# EAGLE library part ADV7611 (library cchow_2014)
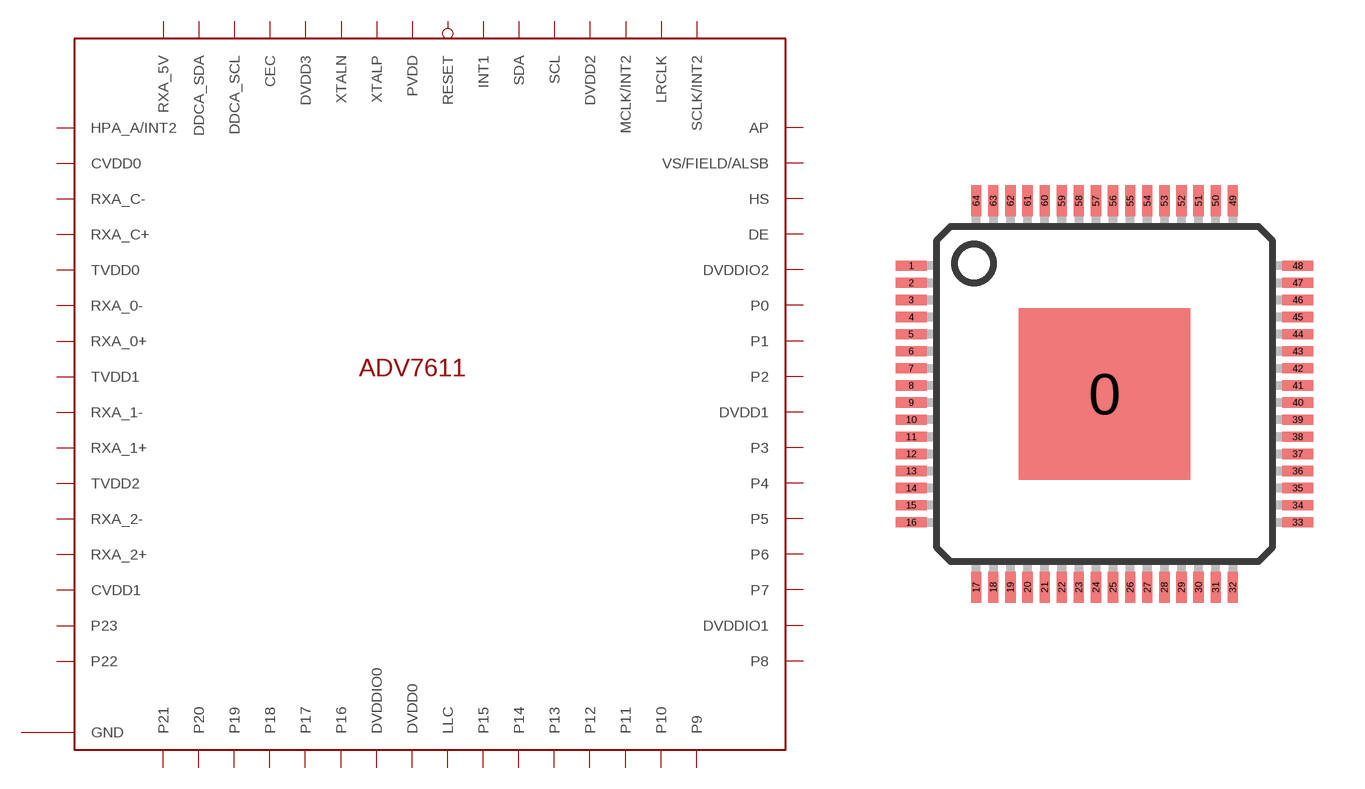
[diagram p0: symbol with the pads of LQFP-ST-64-2; footprint LQFP-ST-64-2]

Designator prefix -

## ADV7611  [LQFP-ST-64-2]
0  GND
1  HPA_A/INT2
2  CVDD0
3  RXA_C-
4  RXA_C+
5  TVDD0
6  RXA_0-
7  RXA_0+
8  TVDD1
9  RXA_1-
10  RXA_1+
11  TVDD2
12  RXA_2-
13  RXA_2+
14  CVDD1
15  P23
16  P22
17  P21
18  P20
19  P19
20  P18
21  P17
22  P16
23  DVDDIO0
24  DVDD0
25  LLC
26  P15
27  P14
28  P13
29  P12
30  P11
31  P10
32  P9
33  P8
34  DVDDIO1
35  P7
36  P6
37  P5
38  P4
39  P3
40  DVDD1
41  P2
42  P1
43  P0
44  DVDDIO2
45  DE
46  HS
47  VS/FIELD/ALSB
48  AP
49  SCLK/INT2
50  LRCLK
51  MCLK/INT2
52  DVDD2
53  SCL
54  SDA
55  INT1
56  RESET
57  PVDD
58  XTALP
59  XTALN
60  DVDD3
61  CEC
62  DDCA_SCL
63  DDCA_SDA
64  RXA_5V

## Footprint LQFP-ST-64-2 (pad centres in mm)
64-Lead Low Profile Quad Flat Package [LQFP] (ST-64-2) COMPLIANT TO JEDEC STANDARDS MS-026-BCD Source: http://www.analog.com/UploadedFiles/Data_Sheets/288945048AD7C7019_20_1_2_4_5_6_7_0.pdf
smd 5 x 5: 0 0,0
smd 0.9 x 0.3: 1 -5.65,3.75; 2 -5.65,3.25; 3 -5.65,2.75; 4 -5.65,2.25; 5 -5.65,1.75; 6 -5.65,1.25; 7 -5.65,0.75; 8 -5.65,0.25; 9 -5.65,-0.25; 10 -5.65,-0.75; 11 -5.65,-1.25; 12 -5.65,-1.75; 13 -5.65,-2.25; 14 -5.65,-2.75; 15 -5.65,-3.25; 16 -5.65,-3.75; 33 5.65,-3.75; 34 5.65,-3.25; 35 5.65,-2.75; 36 5.65,-2.25; 37 5.65,-1.75; 38 5.65,-1.25; 39 5.65,-0.75; 40 5.65,-0.25; 41 5.65,0.25; 42 5.65,0.75; 43 5.65,1.25; 44 5.65,1.75; 45 5.65,2.25; 46 5.65,2.75; 47 5.65,3.25; 48 5.65,3.75
smd 0.3 x 0.9: 17 -3.75,-5.65; 18 -3.25,-5.65; 19 -2.75,-5.65; 20 -2.25,-5.65; 21 -1.75,-5.65; 22 -1.25,-5.65; 23 -0.75,-5.65; 24 -0.25,-5.65; 25 0.25,-5.65; 26 0.75,-5.65; 27 1.25,-5.65; 28 1.75,-5.65; 29 2.25,-5.65; 30 2.75,-5.65; 31 3.25,-5.65; 32 3.75,-5.65; 49 3.75,5.65; 50 3.25,5.65; 51 2.75,5.65; 52 2.25,5.65; 53 1.75,5.65; 54 1.25,5.65; 55 0.75,5.65; 56 0.25,5.65; 57 -0.25,5.65; 58 -0.75,5.65; 59 -1.25,5.65; 60 -1.75,5.65; 61 -2.25,5.65; 62 -2.75,5.65; 63 -3.25,5.65; 64 -3.75,5.65